# Altium footprint library IC_SMD_QUAD.PCBLIB: 135 footprints (part 1 of 9)
Each footprint in its own frame and in the unit in brackets; x right, y up, seen from the top. Pads: shape width x height; smd on the part's side, far side on the other; paste and mask are expansions set on the pad; w line width, h text height; cw(c..) or ccw(c..) is an arc to the next point about the centre after c.
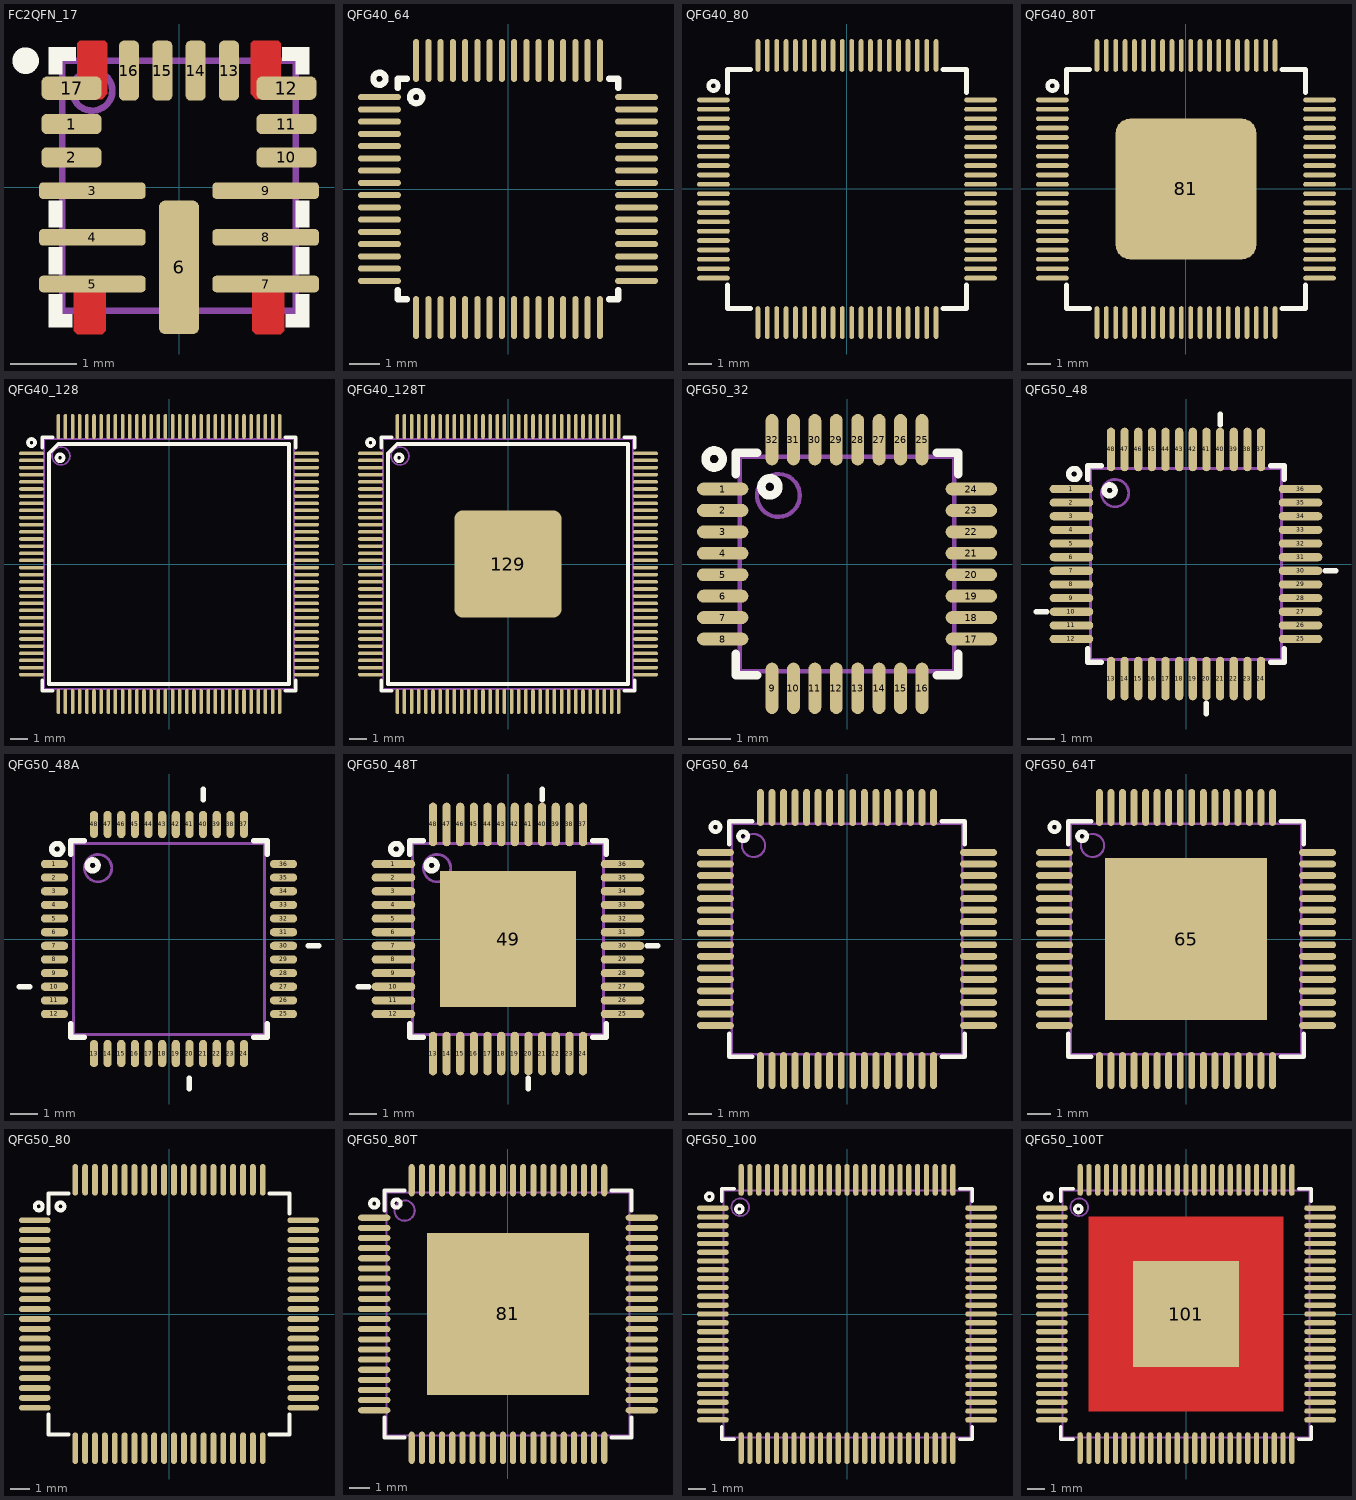
[diagram p0: the footprints below, top view; thin cyan lines are the x and y axes]

## FC2QFN_17 [mm] "FC2QFN-17 3.5x3.75x0.8mm"
height 0.8
pads (17):
  rrect50% 0.9x0.3 smd paste-0.025 mask+0: 1(-1.612,0.95) 2(-1.612,0.45) 10(1.612,0.45) 11(1.612,0.95)
  rrect50% 1.6x0.25 smd paste-0.025 mask+0: 3(-1.3,-0.05) 4(-1.3,-0.75) 5(-1.3,-1.45) 7(1.3,-1.45) 8(1.3,-0.75) 9(1.3,-0.05)
  rrect30% 0.6x2 smd paste-0.3 mask+0: 6(0,-1.2)
  rrect50% 0.9x0.35 smd paste-0.025 mask+0: 12(1.612,1.488) 17(-1.612,1.488)
  rrect50% 0.3x0.9 smd paste-0.025 mask+0: 13(0.75,1.75) 14(0.25,1.75) 15(-0.25,1.75) 16(-0.75,1.75)
TopLayer:
  region: 1.1,-2.15 1.15,-2.2 1.525,-2.2 1.575,-2.15 1.575,-1.45 1.1,-1.45
  region: 1.15,1.325 1.525,1.325 1.525,1.65 1.525,2.163 1.488,2.2 1.112,2.2 1.075,2.163 1.075,1.4
  region: -1.1,-2.15 -1.15,-2.2 -1.525,-2.2 -1.575,-2.15 -1.575,-1.45 -1.1,-1.45
  region: -1.15,1.325 -1.525,1.325 -1.525,1.65 -1.525,2.163 -1.488,2.2 -1.112,2.2 -1.075,2.163 -1.075,1.4
TopOverlay:
  circle w0.2: c-2.3,1.9 r0.1
  region: -1.75,1.7 -1.95,1.7 -1.95,2.1 -1.55,2.1 -1.55,1.9 -1.75,1.9
  region: 1.75,1.7 1.95,1.7 1.95,2.1 1.55,2.1 1.55,1.9 1.75,1.9
  region: -1.75,-1.6 -1.95,-1.6 -1.95,-2.1 -1.6,-2.1 -1.6,-1.9 -1.75,-1.9
  region: 1.75,-1.6 1.95,-1.6 1.95,-2.1 1.6,-2.1 1.6,-1.9 1.75,-1.9
  region: -1.95,-0.6 -1.75,-0.6 -1.75,-0.2 -1.95,-0.2
  region: -1.95,-1.3 -1.75,-1.3 -1.75,-0.9 -1.95,-0.9
  region: 1.95,-0.6 1.75,-0.6 1.75,-0.2 1.95,-0.2
  region: 1.95,-1.3 1.75,-1.3 1.75,-0.9 1.95,-0.9
TopPaste:
  region: -0.2,-1.1 0.2,-1.1 0.2,-0.3 -0.2,-0.3
  region: -0.2,-2.1 0.2,-2.1 0.2,-1.3 -0.2,-1.3
Mechanical13:
  circle w0.1: c-1.3,1.45 r0.3
  lines w0.1: -1.75,-1.85 1.75,-1.85 1.75,1.9 -1.75,1.9 -1.75,-1.85
3D body "MAXIM_90-100104.step": height 0.8, standoff 0, extent -1.75,-1.875 1.75,1.875

## QFG40_64 [mm] "LQFP64_7x7mm, 7X7mm, 0.4mm"
pads (64):
  oval 1.4x0.2 smd mask-2539.97: 1(-4.2,3) 2(-4.2,2.6) 3(-4.2,2.2) 4(-4.2,1.8) 5(-4.2,1.4) 6(-4.2,1) 7(-4.2,0.6) 8(-4.2,0.2) 9(-4.2,-0.2) 10(-4.2,-0.6) 11(-4.2,-1) 12(-4.2,-1.4) 13(-4.2,-1.8) 14(-4.2,-2.2) 15(-4.2,-2.6) 16(-4.2,-3) 33(4.2,-3) 34(4.2,-2.6) 35(4.2,-2.2) 36(4.2,-1.8) 37(4.2,-1.4) 38(4.2,-1) 39(4.2,-0.6) 40(4.2,-0.2) 41(4.2,0.2) 42(4.2,0.6) 43(4.2,1) 44(4.2,1.4) 45(4.2,1.8) 46(4.2,2.2) 47(4.2,2.6) 48(4.2,3)
  oval 0.2x1.4 smd mask-2539.97: 17(-3,-4.2) 18(-2.6,-4.2) 19(-2.2,-4.2) 20(-1.8,-4.2) 21(-1.4,-4.2) 22(-1,-4.2) 23(-0.6,-4.2) 24(-0.2,-4.2) 25(0.2,-4.2) 26(0.6,-4.2) 27(1,-4.2) 28(1.4,-4.2) 29(1.8,-4.2) 30(2.2,-4.2) 31(2.6,-4.2) 32(3,-4.2) 49(3,4.2) 50(2.6,4.2) 51(2.2,4.2) 52(1.8,4.2) 53(1.4,4.2) 54(1,4.2) 55(0.6,4.2) 56(0.2,4.2) 57(-0.2,4.2) 58(-0.6,4.2) 59(-1,4.2) 60(-1.4,4.2) 61(-1.8,4.2) 62(-2.2,4.2) 63(-2.6,4.2) 64(-3,4.2)
TopOverlay:
  circle w0.2: c-3,3 r0.2
  circle w0.2: c-4.2,3.6 r0.2
  lines w0.2: -3.6,-3.3 -3.6,-3.6 -3.3,-3.6 ; -3.6,3.3 -3.6,3.6 -3.3,3.6 ; 3.3,-3.6 3.6,-3.6 3.6,-3.3 ; 3.3,3.6 3.6,3.6 3.6,3.3
TopSolder:
  lines w0.25: -4.875,-3 -3.525,-3 ; -4.875,-2.6 -3.525,-2.6 ; -4.875,-2.2 -3.525,-2.2 ; -4.875,-1.8 -3.525,-1.8 ; -4.875,-1.4 -3.525,-1.4 ; -4.875,-1 -3.525,-1 ; -4.875,-0.6 -3.525,-0.6 ; -4.875,-0.2 -3.525,-0.2 ; -4.875,0.2 -3.525,0.2 ; -4.875,0.6 -3.525,0.6 ; -4.875,1 -3.525,1 ; -4.875,1.4 -3.525,1.4 ; -4.875,1.8 -3.525,1.8 ; -4.875,2.2 -3.525,2.2 ; -4.875,2.6 -3.525,2.6 ; -4.875,3 -3.525,3 ; -3,-4.875 -3,-3.525 ; -3,3.525 -3,4.875 ; -2.6,-4.875 -2.6,-3.525 ; -2.6,3.525 -2.6,4.875 ; -2.2,-4.875 -2.2,-3.525 ; -2.2,3.525 -2.2,4.875 ; -1.8,-4.875 -1.8,-3.525 ; -1.8,3.525 -1.8,4.875 ; -1.4,-4.875 -1.4,-3.525 ; -1.4,3.525 -1.4,4.875 ; -1,-4.875 -1,-3.525 ; -1,3.525 -1,4.875 ; -0.6,-4.875 -0.6,-3.525 ; -0.6,3.525 -0.6,4.875 ; -0.2,-4.875 -0.2,-3.525 ; -0.2,3.525 -0.2,4.875 ; 0.2,-4.875 0.2,-3.525 ; 0.2,3.525 0.2,4.875 ; 0.6,-4.875 0.6,-3.525 ; 0.6,3.525 0.6,4.875 ; 1,-4.875 1,-3.525 ; 1,3.525 1,4.875 ; 1.4,-4.875 1.4,-3.525 ; 1.4,3.525 1.4,4.875 ; 1.8,-4.875 1.8,-3.525 ; 1.8,3.525 1.8,4.875 ; 2.2,-4.875 2.2,-3.525 ; 2.2,3.525 2.2,4.875 ; 2.6,-4.875 2.6,-3.525 ; 2.6,3.525 2.6,4.875 ; 3,-4.875 3,-3.525 ; 3,3.525 3,4.875 ; 3.525,-3 4.875,-3 ; 3.525,-2.6 4.875,-2.6 ; 3.525,-2.2 4.875,-2.2 ; 3.525,-1.8 4.875,-1.8 ; 3.525,-1.4 4.875,-1.4 ; 3.525,-1 4.875,-1 ; 3.525,-0.6 4.875,-0.6 ; 3.525,-0.2 4.875,-0.2 ; 3.525,0.2 4.875,0.2 ; 3.525,0.6 4.875,0.6 ; 3.525,1 4.875,1 ; 3.525,1.4 4.875,1.4 ; 3.525,1.8 4.875,1.8 ; 3.525,2.2 4.875,2.2 ; 3.525,2.6 4.875,2.6 ; 3.525,3 4.875,3
3D body "User Library-LQFP64_7x7mm.step": height 1.58, standoff 0, extent -4.5,-4.5 4.5,4.5

## QFG40_80 [mm] "LQFP-80, 0.40mm Pitch, 10x10mm, FCE80"
height 1.6
pads (80):
  oval 1.4x0.2 smd mask-2539.97: 1(-5.7,3.8) 2(-5.7,3.4) 3(-5.7,3) 4(-5.7,2.6) 5(-5.7,2.2) 6(-5.7,1.8) 7(-5.7,1.4) 8(-5.7,1) 9(-5.7,0.6) 10(-5.7,0.2) 11(-5.7,-0.2) 12(-5.7,-0.6) 13(-5.7,-1) 14(-5.7,-1.4) 15(-5.7,-1.8) 16(-5.7,-2.2) 17(-5.7,-2.6) 18(-5.7,-3) 19(-5.7,-3.4) 20(-5.7,-3.8) 41(5.7,-3.8) 42(5.7,-3.4) 43(5.7,-3) 44(5.7,-2.6) 45(5.7,-2.2) 46(5.7,-1.8) 47(5.7,-1.4) 48(5.7,-1) 49(5.7,-0.6) 50(5.7,-0.2) 51(5.7,0.2) 52(5.7,0.6) 53(5.7,1) 54(5.7,1.4) 55(5.7,1.8) 56(5.7,2.2) 57(5.7,2.6) 58(5.7,3) 59(5.7,3.4) 60(5.7,3.8)
  oval 0.2x1.4 smd mask-2539.97: 21(-3.8,-5.7) 22(-3.4,-5.7) 23(-3,-5.7) 24(-2.6,-5.7) 25(-2.2,-5.7) 26(-1.8,-5.7) 27(-1.4,-5.7) 28(-1,-5.7) 29(-0.6,-5.7) 30(-0.2,-5.7) 31(0.2,-5.7) 32(0.6,-5.7) 33(1,-5.7) 34(1.4,-5.7) 35(1.8,-5.7) 36(2.2,-5.7) 37(2.6,-5.7) 38(3,-5.7) 39(3.4,-5.7) 40(3.8,-5.7) 61(3.8,5.7) 62(3.4,5.7) 63(3,5.7) 64(2.6,5.7) 65(2.2,5.7) 66(1.8,5.7) 67(1.4,5.7) 68(1,5.7) 69(0.6,5.7) 70(0.2,5.7) 71(-0.2,5.7) 72(-0.6,5.7) 73(-1,5.7) 74(-1.4,5.7) 75(-1.8,5.7) 76(-2.2,5.7) 77(-2.6,5.7) 78(-3,5.7) 79(-3.4,5.7) 80(-3.8,5.7)
TopOverlay:
  circle w0.2: c-5.7,4.4 r0.2
  lines w0.2: -5.1,-4.1 -5.1,-5.1 -4.1,-5.1 ; -5.1,4.1 -5.1,5.1 -4.1,5.1 ; 4.1,-5.1 5.1,-5.1 5.1,-4.1 ; 4.1,5.1 5.1,5.1 5.1,4.1
TopSolder:
  lines w0.25: -6.325,-3.8 -5.075,-3.8 ; -6.325,-3.4 -5.075,-3.4 ; -6.325,-3 -5.075,-3 ; -6.325,-2.6 -5.075,-2.6 ; -6.325,-2.2 -5.075,-2.2 ; -6.325,-1.8 -5.075,-1.8 ; -6.325,-1.4 -5.075,-1.4 ; -6.325,-1 -5.075,-1 ; -6.325,-0.6 -5.075,-0.6 ; -6.325,-0.2 -5.075,-0.2 ; -6.325,0.2 -5.075,0.2 ; -6.325,0.6 -5.075,0.6 ; -6.325,1 -5.075,1 ; -6.325,1.4 -5.075,1.4 ; -6.325,1.8 -5.075,1.8 ; -6.325,2.2 -5.075,2.2 ; -6.325,2.6 -5.075,2.6 ; -6.325,3 -5.075,3 ; -6.325,3.4 -5.075,3.4 ; -6.325,3.8 -5.075,3.8 ; -3.8,-6.325 -3.8,-5.075 ; -3.8,5.075 -3.8,6.325 ; -3.4,-6.325 -3.4,-5.075 ; -3.4,5.075 -3.4,6.325 ; -3,-6.325 -3,-5.075 ; -3,5.075 -3,6.325 ; -2.6,-6.325 -2.6,-5.075 ; -2.6,5.075 -2.6,6.325 ; -2.2,-6.325 -2.2,-5.075 ; -2.2,5.075 -2.2,6.325 ; -1.8,-6.325 -1.8,-5.075 ; -1.8,5.075 -1.8,6.325 ; -1.4,-6.325 -1.4,-5.075 ; -1.4,5.075 -1.4,6.325 ; -1,-6.325 -1,-5.075 ; -1,5.075 -1,6.325 ; -0.6,-6.325 -0.6,-5.075 ; -0.6,5.075 -0.6,6.325 ; -0.2,-6.325 -0.2,-5.075 ; -0.2,5.075 -0.2,6.325 ; 0.2,-6.325 0.2,-5.075 ; 0.2,5.075 0.2,6.325 ; 0.6,-6.325 0.6,-5.075 ; 0.6,5.075 0.6,6.325 ; 1,-6.325 1,-5.075 ; 1,5.075 1,6.325 ; 1.4,-6.325 1.4,-5.075 ; 1.4,5.075 1.4,6.325 ; 1.8,-6.325 1.8,-5.075 ; 1.8,5.075 1.8,6.325 ; 2.2,-6.325 2.2,-5.075 ; 2.2,5.075 2.2,6.325 ; 2.6,-6.325 2.6,-5.075 ; 2.6,5.075 2.6,6.325 ; 3,-6.325 3,-5.075 ; 3,5.075 3,6.325 ; 3.4,-6.325 3.4,-5.075 ; 3.4,5.075 3.4,6.325 ; 3.8,-6.325 3.8,-5.075 ; 3.8,5.075 3.8,6.325 ; 5.075,-3.8 6.325,-3.8 ; 5.075,-3.4 6.325,-3.4 ; 5.075,-3 6.325,-3 ; 5.075,-2.6 6.325,-2.6 ; 5.075,-2.2 6.325,-2.2 ; 5.075,-1.8 6.325,-1.8 ; 5.075,-1.4 6.325,-1.4 ; 5.075,-1 6.325,-1 ; 5.075,-0.6 6.325,-0.6 ; 5.075,-0.2 6.325,-0.2 ; 5.075,0.2 6.325,0.2 ; 5.075,0.6 6.325,0.6 ; 5.075,1 6.325,1 ; 5.075,1.4 6.325,1.4 ; 5.075,1.8 6.325,1.8 ; 5.075,2.2 6.325,2.2 ; 5.075,2.6 6.325,2.6 ; 5.075,3 6.325,3 ; 5.075,3.4 6.325,3.4 ; 5.075,3.8 6.325,3.8
3D body "User Library-LQFP-80-2-0.4.step": height 1.75, standoff 0, extent -6.005,-6.002 6,6.002

## QFG40_80T [mm] "LQFP-80, 0.40mm Pitch, 10x10mm, FCE80"
height 1.6
pads (81):
  oval 1.4x0.2 smd mask-2539.97: 1(-5.7,3.8) 2(-5.7,3.4) 3(-5.7,3) 4(-5.7,2.6) 5(-5.7,2.2) 6(-5.7,1.8) 7(-5.7,1.4) 8(-5.7,1) 9(-5.7,0.6) 10(-5.7,0.2) 11(-5.7,-0.2) 12(-5.7,-0.6) 13(-5.7,-1) 14(-5.7,-1.4) 15(-5.7,-1.8) 16(-5.7,-2.2) 17(-5.7,-2.6) 18(-5.7,-3) 19(-5.7,-3.4) 20(-5.7,-3.8) 41(5.7,-3.8) 42(5.7,-3.4) 43(5.7,-3) 44(5.7,-2.6) 45(5.7,-2.2) 46(5.7,-1.8) 47(5.7,-1.4) 48(5.7,-1) 49(5.7,-0.6) 50(5.7,-0.2) 51(5.7,0.2) 52(5.7,0.6) 53(5.7,1) 54(5.7,1.4) 55(5.7,1.8) 56(5.7,2.2) 57(5.7,2.6) 58(5.7,3) 59(5.7,3.4) 60(5.7,3.8)
  oval 0.2x1.4 smd mask-2539.97: 21(-3.8,-5.7) 22(-3.4,-5.7) 23(-3,-5.7) 24(-2.6,-5.7) 25(-2.2,-5.7) 26(-1.8,-5.7) 27(-1.4,-5.7) 28(-1,-5.7) 29(-0.6,-5.7) 30(-0.2,-5.7) 31(0.2,-5.7) 32(0.6,-5.7) 33(1,-5.7) 34(1.4,-5.7) 35(1.8,-5.7) 36(2.2,-5.7) 37(2.6,-5.7) 38(3,-5.7) 39(3.4,-5.7) 40(3.8,-5.7) 61(3.8,5.7) 62(3.4,5.7) 63(3,5.7) 64(2.6,5.7) 65(2.2,5.7) 66(1.8,5.7) 67(1.4,5.7) 68(1,5.7) 69(0.6,5.7) 70(0.2,5.7) 71(-0.2,5.7) 72(-0.6,5.7) 73(-1,5.7) 74(-1.4,5.7) 75(-1.8,5.7) 76(-2.2,5.7) 77(-2.6,5.7) 78(-3,5.7) 79(-3.4,5.7) 80(-3.8,5.7)
  rrect20% 6x6 smd mask+0.1: 81(0,0)
TopOverlay:
  circle w0.2: c-5.7,4.4 r0.2
  lines w0.2: -5.1,-4.1 -5.1,-5.1 -4.1,-5.1 ; -5.1,4.1 -5.1,5.1 -4.1,5.1 ; 4.1,-5.1 5.1,-5.1 5.1,-4.1 ; 4.1,5.1 5.1,5.1 5.1,4.1
TopSolder:
  lines w0.25: -6.375,-3.8 -5.025,-3.8 ; -6.375,-3.4 -5.025,-3.4 ; -6.375,-3 -5.025,-3 ; -6.375,-2.6 -5.025,-2.6 ; -6.375,-2.2 -5.025,-2.2 ; -6.375,-1.8 -5.025,-1.8 ; -6.375,-1.4 -5.025,-1.4 ; -6.375,-1 -5.025,-1 ; -6.375,-0.6 -5.025,-0.6 ; -6.375,-0.2 -5.025,-0.2 ; -6.375,0.2 -5.025,0.2 ; -6.375,0.6 -5.025,0.6 ; -6.375,1 -5.025,1 ; -6.375,1.4 -5.025,1.4 ; -6.375,1.8 -5.025,1.8 ; -6.375,2.2 -5.025,2.2 ; -6.375,2.6 -5.025,2.6 ; -6.375,3 -5.025,3 ; -6.375,3.4 -5.025,3.4 ; -6.375,3.8 -5.025,3.8 ; -3.8,-6.375 -3.8,-5.025 ; -3.8,5.025 -3.8,6.375 ; -3.4,-6.375 -3.4,-5.025 ; -3.4,5.025 -3.4,6.375 ; -3,-6.375 -3,-5.025 ; -3,5.025 -3,6.375 ; -2.6,-6.375 -2.6,-5.025 ; -2.6,5.025 -2.6,6.375 ; -2.2,-6.375 -2.2,-5.025 ; -2.2,5.025 -2.2,6.375 ; -1.8,-6.375 -1.8,-5.025 ; -1.8,5.025 -1.8,6.375 ; -1.4,-6.375 -1.4,-5.025 ; -1.4,5.025 -1.4,6.375 ; -1,-6.375 -1,-5.025 ; -1,5.025 -1,6.375 ; -0.6,-6.375 -0.6,-5.025 ; -0.6,5.025 -0.6,6.375 ; -0.2,-6.375 -0.2,-5.025 ; -0.2,5.025 -0.2,6.375 ; 0.2,-6.375 0.2,-5.025 ; 0.2,5.025 0.2,6.375 ; 0.6,-6.375 0.6,-5.025 ; 0.6,5.025 0.6,6.375 ; 1,-6.375 1,-5.025 ; 1,5.025 1,6.375 ; 1.4,-6.375 1.4,-5.025 ; 1.4,5.025 1.4,6.375 ; 1.8,-6.375 1.8,-5.025 ; 1.8,5.025 1.8,6.375 ; 2.2,-6.375 2.2,-5.025 ; 2.2,5.025 2.2,6.375 ; 2.6,-6.375 2.6,-5.025 ; 2.6,5.025 2.6,6.375 ; 3,-6.375 3,-5.025 ; 3,5.025 3,6.375 ; 3.4,-6.375 3.4,-5.025 ; 3.4,5.025 3.4,6.375 ; 3.8,-6.375 3.8,-5.025 ; 3.8,5.025 3.8,6.375 ; 5.025,-3.8 6.375,-3.8 ; 5.025,-3.4 6.375,-3.4 ; 5.025,-3 6.375,-3 ; 5.025,-2.6 6.375,-2.6 ; 5.025,-2.2 6.375,-2.2 ; 5.025,-1.8 6.375,-1.8 ; 5.025,-1.4 6.375,-1.4 ; 5.025,-1 6.375,-1 ; 5.025,-0.6 6.375,-0.6 ; 5.025,-0.2 6.375,-0.2 ; 5.025,0.2 6.375,0.2 ; 5.025,0.6 6.375,0.6 ; 5.025,1 6.375,1 ; 5.025,1.4 6.375,1.4 ; 5.025,1.8 6.375,1.8 ; 5.025,2.2 6.375,2.2 ; 5.025,2.6 6.375,2.6 ; 5.025,3 6.375,3 ; 5.025,3.4 6.375,3.4 ; 5.025,3.8 6.375,3.8
3D body "User Library-LQFP-80-2-0.4.step": height 1.75, standoff 0, extent -6.005,-6.002 6,6.002

## QFG40_128 [mm] "LQFP128, PQFP-128, MS-026(JEDEC), 14X14mm, 0.4mm"
height 1.6
pads (128):
  oval 1.4x0.2 smd mask-2539.97: 1(-7.7,6.2) 2(-7.7,5.8) 3(-7.7,5.4) 4(-7.7,5) 5(-7.7,4.6) 6(-7.7,4.2) 7(-7.7,3.8) 8(-7.7,3.4) 9(-7.7,3) 10(-7.7,2.6) 11(-7.7,2.2) 12(-7.7,1.8) 13(-7.7,1.4) 14(-7.7,1) 15(-7.7,0.6) 16(-7.7,0.2) 17(-7.7,-0.2) 18(-7.7,-0.6) 19(-7.7,-1) 20(-7.7,-1.4) 21(-7.7,-1.8) 22(-7.7,-2.2) 23(-7.7,-2.6) 24(-7.7,-3) 25(-7.7,-3.4) 26(-7.7,-3.8) 27(-7.7,-4.2) 28(-7.7,-4.6) 29(-7.7,-5) 30(-7.7,-5.4) 31(-7.7,-5.8) 32(-7.7,-6.2) 65(7.7,-6.2) 66(7.7,-5.8) 67(7.7,-5.4) 68(7.7,-5) 69(7.7,-4.6) 70(7.7,-4.2) 71(7.7,-3.8) 72(7.7,-3.4) 73(7.7,-3) 74(7.7,-2.6) 75(7.7,-2.2) 76(7.7,-1.8) 77(7.7,-1.4) 78(7.7,-1) 79(7.7,-0.6) 80(7.7,-0.2) 81(7.7,0.2) 82(7.7,0.6) 83(7.7,1) 84(7.7,1.4) 85(7.7,1.8) 86(7.7,2.2) 87(7.7,2.6) 88(7.7,3) 89(7.7,3.4) 90(7.7,3.8) 91(7.7,4.2) 92(7.7,4.6) 93(7.7,5) 94(7.7,5.4) 95(7.7,5.8) 96(7.7,6.2)
  oval 0.2x1.4 smd mask-2539.97: 33(-6.2,-7.7) 34(-5.8,-7.7) 35(-5.4,-7.7) 36(-5,-7.7) 37(-4.6,-7.7) 38(-4.2,-7.7) 39(-3.8,-7.7) 40(-3.4,-7.7) 41(-3,-7.7) 42(-2.6,-7.7) 43(-2.2,-7.7) 44(-1.8,-7.7) 45(-1.4,-7.7) 46(-1,-7.7) 47(-0.6,-7.7) 48(-0.2,-7.7) 49(0.2,-7.7) 50(0.6,-7.7) 51(1,-7.7) 52(1.4,-7.7) 53(1.8,-7.7) 54(2.2,-7.7) 55(2.6,-7.7) 56(3,-7.7) 57(3.4,-7.7) 58(3.8,-7.7) 59(4.2,-7.7) 60(4.6,-7.7) 61(5,-7.7) 62(5.4,-7.7) 63(5.8,-7.7) 64(6.2,-7.7) 97(6.2,7.7) 98(5.8,7.7) 99(5.4,7.7) 100(5,7.7) 101(4.6,7.7) 102(4.2,7.7) 103(3.8,7.7) 104(3.4,7.7) 105(3,7.7) 106(2.6,7.7) 107(2.2,7.7) 108(1.8,7.7) 109(1.4,7.7) 110(1,7.7) 111(0.6,7.7) 112(0.2,7.7) 113(-0.2,7.7) 114(-0.6,7.7) 115(-1,7.7) 116(-1.4,7.7) 117(-1.8,7.7) 118(-2.2,7.7) 119(-2.6,7.7) 120(-3,7.7) 121(-3.4,7.7) 122(-3.8,7.7) 123(-4.2,7.7) 124(-4.6,7.7) 125(-5,7.7) 126(-5.4,7.7) 127(-5.8,7.7) 128(-6.2,7.7)
TopOverlay:
  circle w0.2: c-6.1,5.949 r0.2
  circle w0.2: c-7.7,6.8 r0.2
  lines w0.2: -7.1,-6.5 -7.1,-7.1 -6.5,-7.1 ; -7.1,6.5 -7.1,7.1 -6.5,7.1 ; 6.5,-7.1 7.1,-7.1 7.1,-6.5 ; 6.5,7.1 7.1,7.1 7.1,6.5 ; -6.719,-6.719 -6.719,4.93 -6.719,6.211 -6.211,6.719 -4.93,6.719 6.719,6.719 6.719,-6.719 -6.719,-6.719
TopSolder:
  lines w0.25: -8.375,-6.2 -7.025,-6.2 ; -8.375,-5.8 -7.025,-5.8 ; -8.375,-5.4 -7.025,-5.4 ; -8.375,-5 -7.025,-5 ; -8.375,-4.6 -7.025,-4.6 ; -8.375,-4.2 -7.025,-4.2 ; -8.375,-3.8 -7.025,-3.8 ; -8.375,-3.4 -7.025,-3.4 ; -8.375,-3 -7.025,-3 ; -8.375,-2.6 -7.025,-2.6 ; -8.375,-2.2 -7.025,-2.2 ; -8.375,-1.8 -7.025,-1.8 ; -8.375,-1.4 -7.025,-1.4 ; -8.375,-1 -7.025,-1 ; -8.375,-0.6 -7.025,-0.6 ; -8.375,-0.2 -7.025,-0.2 ; -8.375,0.2 -7.025,0.2 ; -8.375,0.6 -7.025,0.6 ; -8.375,1 -7.025,1 ; -8.375,1.4 -7.025,1.4 ; -8.375,1.8 -7.025,1.8 ; -8.375,2.2 -7.025,2.2 ; -8.375,2.6 -7.025,2.6 ; -8.375,3 -7.025,3 ; -8.375,3.4 -7.025,3.4 ; -8.375,3.8 -7.025,3.8 ; -8.375,4.2 -7.025,4.2 ; -8.375,4.6 -7.025,4.6 ; -8.375,5 -7.025,5 ; -8.375,5.4 -7.025,5.4 ; -8.375,5.8 -7.025,5.8 ; -8.375,6.2 -7.025,6.2 ; -6.2,-8.375 -6.2,-7.025 ; -6.2,7.025 -6.2,8.375 ; -5.8,-8.375 -5.8,-7.025 ; -5.8,7.025 -5.8,8.375 ; -5.4,-8.375 -5.4,-7.025 ; -5.4,7.025 -5.4,8.375 ; -5,-8.375 -5,-7.025 ; -5,7.025 -5,8.375 ; -4.6,-8.375 -4.6,-7.025 ; -4.6,7.025 -4.6,8.375 ; -4.2,-8.375 -4.2,-7.025 ; -4.2,7.025 -4.2,8.375 ; -3.8,-8.375 -3.8,-7.025 ; -3.8,7.025 -3.8,8.375 ; -3.4,-8.375 -3.4,-7.025 ; -3.4,7.025 -3.4,8.375 ; -3,-8.375 -3,-7.025 ; -3,7.025 -3,8.375 ; -2.6,-8.375 -2.6,-7.025 ; -2.6,7.025 -2.6,8.375 ; -2.2,-8.375 -2.2,-7.025 ; -2.2,7.025 -2.2,8.375 ; -1.8,-8.375 -1.8,-7.025 ; -1.8,7.025 -1.8,8.375 ; -1.4,-8.375 -1.4,-7.025 ; -1.4,7.025 -1.4,8.375 ; -1,-8.375 -1,-7.025 ; -1,7.025 -1,8.375 ; -0.6,-8.375 -0.6,-7.025 ; -0.6,7.025 -0.6,8.375 ; -0.2,-8.375 -0.2,-7.025 ; -0.2,7.025 -0.2,8.375 ; 0.2,-8.375 0.2,-7.025 ; 0.2,7.025 0.2,8.375 ; 0.6,-8.375 0.6,-7.025 ; 0.6,7.025 0.6,8.375 ; 1,-8.375 1,-7.025 ; 1,7.025 1,8.375 ; 1.4,-8.375 1.4,-7.025 ; 1.4,7.025 1.4,8.375 ; 1.8,-8.375 1.8,-7.025 ; 1.8,7.025 1.8,8.375 ; 2.2,-8.375 2.2,-7.025 ; 2.2,7.025 2.2,8.375 ; 2.6,-8.375 2.6,-7.025 ; 2.6,7.025 2.6,8.375 ; 3,-8.375 3,-7.025 ; 3,7.025 3,8.375 ; 3.4,-8.375 3.4,-7.025 ; 3.4,7.025 3.4,8.375 ; 3.8,-8.375 3.8,-7.025 ; 3.8,7.025 3.8,8.375 ; 4.2,-8.375 4.2,-7.025 ; 4.2,7.025 4.2,8.375 ; 4.6,-8.375 4.6,-7.025 ; 4.6,7.025 4.6,8.375 ; 5,-8.375 5,-7.025 ; 5,7.025 5,8.375 ; 5.4,-8.375 5.4,-7.025 ; 5.4,7.025 5.4,8.375 ; 5.8,-8.375 5.8,-7.025 ; 5.8,7.025 5.8,8.375 ; 6.2,-8.375 6.2,-7.025 ; 6.2,7.025 6.2,8.375 ; 7.025,-6.2 8.375,-6.2 ; 7.025,-5.8 8.375,-5.8 ; 7.025,-5.4 8.375,-5.4 ; 7.025,-5 8.375,-5 ; 7.025,-4.6 8.375,-4.6 ; 7.025,-4.2 8.375,-4.2 ; 7.025,-3.8 8.375,-3.8 ; 7.025,-3.4 8.375,-3.4 ; 7.025,-3 8.375,-3 ; 7.025,-2.6 8.375,-2.6 ; 7.025,-2.2 8.375,-2.2 ; 7.025,-1.8 8.375,-1.8 ; 7.025,-1.4 8.375,-1.4 ; 7.025,-1 8.375,-1 ; 7.025,-0.6 8.375,-0.6 ; 7.025,-0.2 8.375,-0.2 ; 7.025,0.2 8.375,0.2 ; 7.025,0.6 8.375,0.6 ; 7.025,1 8.375,1 ; 7.025,1.4 8.375,1.4 ; 7.025,1.8 8.375,1.8 ; 7.025,2.2 8.375,2.2 ; 7.025,2.6 8.375,2.6 ; 7.025,3 8.375,3 ; 7.025,3.4 8.375,3.4 ; 7.025,3.8 8.375,3.8 ; 7.025,4.2 8.375,4.2 ; 7.025,4.6 8.375,4.6 ; 7.025,5 8.375,5 ; 7.025,5.4 8.375,5.4 ; 7.025,5.8 8.375,5.8 ; 7.025,6.2 8.375,6.2
Mechanical13:
  circle w0.1: c-6.05,6.05 r0.5
  lines w0.1: -7,-7 7,-7 7,7 -7,7 -7,-7
3D body "LQFP40P-128.STEP": height 1.35, standoff 0, extent -8,-8 8,8

## QFG40_128T [mm] "LQFP128, PQFP-128, MS-026(JEDEC), 14X14mm, 0.4mm"
height 1.6
pads (129):
  oval 1.4x0.2 smd mask-2539.97: 1(-7.7,6.2) 2(-7.7,5.8) 3(-7.7,5.4) 4(-7.7,5) 5(-7.7,4.6) 6(-7.7,4.2) 7(-7.7,3.8) 8(-7.7,3.4) 9(-7.7,3) 10(-7.7,2.6) 11(-7.7,2.2) 12(-7.7,1.8) 13(-7.7,1.4) 14(-7.7,1) 15(-7.7,0.6) 16(-7.7,0.2) 17(-7.7,-0.2) 18(-7.7,-0.6) 19(-7.7,-1) 20(-7.7,-1.4) 21(-7.7,-1.8) 22(-7.7,-2.2) 23(-7.7,-2.6) 24(-7.7,-3) 25(-7.7,-3.4) 26(-7.7,-3.8) 27(-7.7,-4.2) 28(-7.7,-4.6) 29(-7.7,-5) 30(-7.7,-5.4) 31(-7.7,-5.8) 32(-7.7,-6.2) 65(7.7,-6.2) 66(7.7,-5.8) 67(7.7,-5.4) 68(7.7,-5) 69(7.7,-4.6) 70(7.7,-4.2) 71(7.7,-3.8) 72(7.7,-3.4) 73(7.7,-3) 74(7.7,-2.6) 75(7.7,-2.2) 76(7.7,-1.8) 77(7.7,-1.4) 78(7.7,-1) 79(7.7,-0.6) 80(7.7,-0.2) 81(7.7,0.2) 82(7.7,0.6) 83(7.7,1) 84(7.7,1.4) 85(7.7,1.8) 86(7.7,2.2) 87(7.7,2.6) 88(7.7,3) 89(7.7,3.4) 90(7.7,3.8) 91(7.7,4.2) 92(7.7,4.6) 93(7.7,5) 94(7.7,5.4) 95(7.7,5.8) 96(7.7,6.2)
  oval 0.2x1.4 smd mask-2539.97: 33(-6.2,-7.7) 34(-5.8,-7.7) 35(-5.4,-7.7) 36(-5,-7.7) 37(-4.6,-7.7) 38(-4.2,-7.7) 39(-3.8,-7.7) 40(-3.4,-7.7) 41(-3,-7.7) 42(-2.6,-7.7) 43(-2.2,-7.7) 44(-1.8,-7.7) 45(-1.4,-7.7) 46(-1,-7.7) 47(-0.6,-7.7) 48(-0.2,-7.7) 49(0.2,-7.7) 50(0.6,-7.7) 51(1,-7.7) 52(1.4,-7.7) 53(1.8,-7.7) 54(2.2,-7.7) 55(2.6,-7.7) 56(3,-7.7) 57(3.4,-7.7) 58(3.8,-7.7) 59(4.2,-7.7) 60(4.6,-7.7) 61(5,-7.7) 62(5.4,-7.7) 63(5.8,-7.7) 64(6.2,-7.7) 97(6.2,7.7) 98(5.8,7.7) 99(5.4,7.7) 100(5,7.7) 101(4.6,7.7) 102(4.2,7.7) 103(3.8,7.7) 104(3.4,7.7) 105(3,7.7) 106(2.6,7.7) 107(2.2,7.7) 108(1.8,7.7) 109(1.4,7.7) 110(1,7.7) 111(0.6,7.7) 112(0.2,7.7) 113(-0.2,7.7) 114(-0.6,7.7) 115(-1,7.7) 116(-1.4,7.7) 117(-1.8,7.7) 118(-2.2,7.7) 119(-2.6,7.7) 120(-3,7.7) 121(-3.4,7.7) 122(-3.8,7.7) 123(-4.2,7.7) 124(-4.6,7.7) 125(-5,7.7) 126(-5.4,7.7) 127(-5.8,7.7) 128(-6.2,7.7)
  rrect15% 6x6 smd paste-5 mask+0.1: 129(0,0)
TopOverlay:
  circle w0.2: c-7.7,6.8 r0.2
  circle w0.2: c-6.1,5.949 r0.2
  lines w0.2: -7.1,-6.5 -7.1,-7.1 -6.5,-7.1 ; -7.1,6.5 -7.1,7.1 -6.5,7.1 ; 6.5,-7.1 7.1,-7.1 7.1,-6.5 ; 6.5,7.1 7.1,7.1 7.1,6.5 ; -6.719,-6.719 6.719,-6.719 6.719,6.719 -4.93,6.719 -6.211,6.719 -6.719,6.211 -6.719,4.93 -6.719,-6.719
TopSolder:
  lines w0.25: -8.375,-6.2 -7.025,-6.2 ; -8.375,-5.8 -7.025,-5.8 ; -8.375,-5.4 -7.025,-5.4 ; -8.375,-5 -7.025,-5 ; -8.375,-4.6 -7.025,-4.6 ; -8.375,-4.2 -7.025,-4.2 ; -8.375,-3.8 -7.025,-3.8 ; -8.375,-3.4 -7.025,-3.4 ; -8.375,-3 -7.025,-3 ; -8.375,-2.6 -7.025,-2.6 ; -8.375,-2.2 -7.025,-2.2 ; -8.375,-1.8 -7.025,-1.8 ; -8.375,-1.4 -7.025,-1.4 ; -8.375,-1 -7.025,-1 ; -8.375,-0.6 -7.025,-0.6 ; -8.375,-0.2 -7.025,-0.2 ; -8.375,0.2 -7.025,0.2 ; -8.375,0.6 -7.025,0.6 ; -8.375,1 -7.025,1 ; -8.375,1.4 -7.025,1.4 ; -8.375,1.8 -7.025,1.8 ; -8.375,2.2 -7.025,2.2 ; -8.375,2.6 -7.025,2.6 ; -8.375,3 -7.025,3 ; -8.375,3.4 -7.025,3.4 ; -8.375,3.8 -7.025,3.8 ; -8.375,4.2 -7.025,4.2 ; -8.375,4.6 -7.025,4.6 ; -8.375,5 -7.025,5 ; -8.375,5.4 -7.025,5.4 ; -8.375,5.8 -7.025,5.8 ; -8.375,6.2 -7.025,6.2 ; -6.2,-8.375 -6.2,-7.025 ; -6.2,7.025 -6.2,8.375 ; -5.8,-8.375 -5.8,-7.025 ; -5.8,7.025 -5.8,8.375 ; -5.4,-8.375 -5.4,-7.025 ; -5.4,7.025 -5.4,8.375 ; -5,-8.375 -5,-7.025 ; -5,7.025 -5,8.375 ; -4.6,-8.375 -4.6,-7.025 ; -4.6,7.025 -4.6,8.375 ; -4.2,-8.375 -4.2,-7.025 ; -4.2,7.025 -4.2,8.375 ; -3.8,-8.375 -3.8,-7.025 ; -3.8,7.025 -3.8,8.375 ; -3.4,-8.375 -3.4,-7.025 ; -3.4,7.025 -3.4,8.375 ; -3,-8.375 -3,-7.025 ; -3,7.025 -3,8.375 ; -2.6,-8.375 -2.6,-7.025 ; -2.6,7.025 -2.6,8.375 ; -2.2,-8.375 -2.2,-7.025 ; -2.2,7.025 -2.2,8.375 ; -1.8,-8.375 -1.8,-7.025 ; -1.8,7.025 -1.8,8.375 ; -1.4,-8.375 -1.4,-7.025 ; -1.4,7.025 -1.4,8.375 ; -1,-8.375 -1,-7.025 ; -1,7.025 -1,8.375 ; -0.6,-8.375 -0.6,-7.025 ; -0.6,7.025 -0.6,8.375 ; -0.2,-8.375 -0.2,-7.025 ; -0.2,7.025 -0.2,8.375 ; 0.2,-8.375 0.2,-7.025 ; 0.2,7.025 0.2,8.375 ; 0.6,-8.375 0.6,-7.025 ; 0.6,7.025 0.6,8.375 ; 1,-8.375 1,-7.025 ; 1,7.025 1,8.375 ; 1.4,-8.375 1.4,-7.025 ; 1.4,7.025 1.4,8.375 ; 1.8,-8.375 1.8,-7.025 ; 1.8,7.025 1.8,8.375 ; 2.2,-8.375 2.2,-7.025 ; 2.2,7.025 2.2,8.375 ; 2.6,-8.375 2.6,-7.025 ; 2.6,7.025 2.6,8.375 ; 3,-8.375 3,-7.025 ; 3,7.025 3,8.375 ; 3.4,-8.375 3.4,-7.025 ; 3.4,7.025 3.4,8.375 ; 3.8,-8.375 3.8,-7.025 ; 3.8,7.025 3.8,8.375 ; 4.2,-8.375 4.2,-7.025 ; 4.2,7.025 4.2,8.375 ; 4.6,-8.375 4.6,-7.025 ; 4.6,7.025 4.6,8.375 ; 5,-8.375 5,-7.025 ; 5,7.025 5,8.375 ; 5.4,-8.375 5.4,-7.025 ; 5.4,7.025 5.4,8.375 ; 5.8,-8.375 5.8,-7.025 ; 5.8,7.025 5.8,8.375 ; 6.2,-8.375 6.2,-7.025 ; 6.2,7.025 6.2,8.375 ; 7.025,-6.2 8.375,-6.2 ; 7.025,-5.8 8.375,-5.8 ; 7.025,-5.4 8.375,-5.4 ; 7.025,-5 8.375,-5 ; 7.025,-4.6 8.375,-4.6 ; 7.025,-4.2 8.375,-4.2 ; 7.025,-3.8 8.375,-3.8 ; 7.025,-3.4 8.375,-3.4 ; 7.025,-3 8.375,-3 ; 7.025,-2.6 8.375,-2.6 ; 7.025,-2.2 8.375,-2.2 ; 7.025,-1.8 8.375,-1.8 ; 7.025,-1.4 8.375,-1.4 ; 7.025,-1 8.375,-1 ; 7.025,-0.6 8.375,-0.6 ; 7.025,-0.2 8.375,-0.2 ; 7.025,0.2 8.375,0.2 ; 7.025,0.6 8.375,0.6 ; 7.025,1 8.375,1 ; 7.025,1.4 8.375,1.4 ; 7.025,1.8 8.375,1.8 ; 7.025,2.2 8.375,2.2 ; 7.025,2.6 8.375,2.6 ; 7.025,3 8.375,3 ; 7.025,3.4 8.375,3.4 ; 7.025,3.8 8.375,3.8 ; 7.025,4.2 8.375,4.2 ; 7.025,4.6 8.375,4.6 ; 7.025,5 8.375,5 ; 7.025,5.4 8.375,5.4 ; 7.025,5.8 8.375,5.8 ; 7.025,6.2 8.375,6.2
Mechanical13:
  circle w0.1: c-6.05,6.05 r0.5
  lines w0.1: -7,-7 -7,7 7,7 7,-7 -7,-7
3D body "LQFP40P-128.STEP": height 1.35, standoff 0, extent -8,-8 8,8

## QFG50_32 [mm] "PBS TSQFP, 32-Leads, Body 5.00x5.00mm, Pitch 0.50mm"
height 1
pads (32):
  oval 1.2x0.3 smd mask+0.05: 1(-2.9,1.75) 2(-2.9,1.25) 3(-2.9,0.75) 4(-2.9,0.25) 5(-2.9,-0.25) 6(-2.9,-0.75) 7(-2.9,-1.25) 8(-2.9,-1.75) 17(2.9,-1.75) 18(2.9,-1.25) 19(2.9,-0.75) 20(2.9,-0.25) 21(2.9,0.25) 22(2.9,0.75) 23(2.9,1.25) 24(2.9,1.75)
  oval 0.3x1.2 smd mask+0.05: 9(-1.75,-2.9) 10(-1.25,-2.9) 11(-0.75,-2.9) 12(-0.25,-2.9) 13(0.25,-2.9) 14(0.75,-2.9) 15(1.25,-2.9) 16(1.75,-2.9) 25(1.75,2.9) 26(1.25,2.9) 27(0.75,2.9) 28(0.25,2.9) 29(-0.25,2.9) 30(-0.75,2.9) 31(-1.25,2.9) 32(-1.75,2.9)
TopOverlay:
  circle w0.2: c-3.1,2.45 r0.2
  circle w0.2: c-1.8,1.8 r0.2
  lines w0.2: -2.6,-2.1 -2.6,-2.6 -2.1,-2.6 ; -2.6,2.1 -2.6,2.6 -2.1,2.6 ; 2.1,-2.6 2.6,-2.6 2.6,-2.1 ; 2.1,2.6 2.6,2.6 2.6,2.1
Mechanical13:
  circle w0.1: c-1.6,1.6 r0.5
  lines w0.1: -2.5,-2.5 -2.5,2.5 2.5,2.5 2.5,-2.5 -2.5,-2.5
3D body "QFG50_32_.step": height 1, standoff 0, extent -3,-3 3,3

## QFG50_48 [mm] "LQFP48, PQFF, PQFG, TSQFP, 48-Leads, Body 7.00x7.00mm, Pitch 0.50mm"
height 1.6
pads (48):
  oval 1.6x0.3 smd mask+0.05: 1(-4.2,2.75) 2(-4.2,2.25) 3(-4.2,1.75) 4(-4.2,1.25) 5(-4.2,0.75) 6(-4.2,0.25) 7(-4.2,-0.25) 8(-4.2,-0.75) 9(-4.2,-1.25) 10(-4.2,-1.75) 11(-4.2,-2.25) 12(-4.2,-2.75) 25(4.2,-2.75) 26(4.2,-2.25) 27(4.2,-1.75) 28(4.2,-1.25) 29(4.2,-0.75) 30(4.2,-0.25) 31(4.2,0.25) 32(4.2,0.75) 33(4.2,1.25) 34(4.2,1.75) 35(4.2,2.25) 36(4.2,2.75)
  oval 0.3x1.6 smd mask+0.05: 13(-2.75,-4.2) 14(-2.25,-4.2) 15(-1.75,-4.2) 16(-1.25,-4.2) 17(-0.75,-4.2) 18(-0.25,-4.2) 19(0.25,-4.2) 20(0.75,-4.2) 21(1.25,-4.2) 22(1.75,-4.2) 23(2.25,-4.2) 24(2.75,-4.2) 37(2.75,4.2) 38(2.25,4.2) 39(1.75,4.2) 40(1.25,4.2) 41(0.75,4.2) 42(0.25,4.2) 43(-0.25,4.2) 44(-0.75,4.2) 45(-1.25,4.2) 46(-1.75,4.2) 47(-2.25,4.2) 48(-2.75,4.2)
TopOverlay:
  circle w0.2: c-2.8,2.7 r0.2
  circle w0.2: c-4.1,3.3 r0.2
  lines w0.2: -5.5,-1.75 -5.1,-1.75 ; -3.6,-3.1 -3.6,-3.6 -3.1,-3.6 ; -3.6,3.1 -3.6,3.6 -3.1,3.6 ; 0.75,-5.5 0.75,-5.1 ; 1.25,5.1 1.25,5.5 ; 3.1,-3.6 3.6,-3.6 3.6,-3.1 ; 3.1,3.6 3.6,3.6 3.6,3.1 ; 5.1,-0.25 5.5,-0.25
Mechanical13:
  circle w0.1: c-2.6,2.6 r0.5
  lines w0.1: -3.5,-3.5 3.5,-3.5 3.5,3.5 -3.5,3.5 -3.5,-3.5
3D body "LQFP48_Grid_0_5.STEP": height 1.6, standoff 0, extent -4.5,-4.5 4.5,4.5

## QFG50_48A [mm] "LQFP48, PQFF, PQFG, TSQFP, 48-Leads, Body 7.00x7.00mm, Pitch 0.50mm"
height 1.6
pads (48):
  oval 1x0.3 smd mask+0.05: 1(-4.2,2.75) 2(-4.2,2.25) 3(-4.2,1.75) 4(-4.2,1.25) 5(-4.2,0.75) 6(-4.2,0.25) 7(-4.2,-0.25) 8(-4.2,-0.75) 9(-4.2,-1.25) 10(-4.2,-1.75) 11(-4.2,-2.25) 12(-4.2,-2.75) 25(4.2,-2.75) 26(4.2,-2.25) 27(4.2,-1.75) 28(4.2,-1.25) 29(4.2,-0.75) 30(4.2,-0.25) 31(4.2,0.25) 32(4.2,0.75) 33(4.2,1.25) 34(4.2,1.75) 35(4.2,2.25) 36(4.2,2.75)
  oval 0.3x1 smd mask+0.05: 13(-2.75,-4.2) 14(-2.25,-4.2) 15(-1.75,-4.2) 16(-1.25,-4.2) 17(-0.75,-4.2) 18(-0.25,-4.2) 19(0.25,-4.2) 20(0.75,-4.2) 21(1.25,-4.2) 22(1.75,-4.2) 23(2.25,-4.2) 24(2.75,-4.2) 37(2.75,4.2) 38(2.25,4.2) 39(1.75,4.2) 40(1.25,4.2) 41(0.75,4.2) 42(0.25,4.2) 43(-0.25,4.2) 44(-0.75,4.2) 45(-1.25,4.2) 46(-1.75,4.2) 47(-2.25,4.2) 48(-2.75,4.2)
TopOverlay:
  circle w0.2: c-2.8,2.7 r0.2
  circle w0.2: c-4.1,3.3 r0.2
  lines w0.2: -5.5,-1.75 -5.1,-1.75 ; -3.6,-3.1 -3.6,-3.6 -3.1,-3.6 ; -3.6,3.1 -3.6,3.6 -3.1,3.6 ; 0.75,-5.5 0.75,-5.1 ; 1.25,5.1 1.25,5.5 ; 3.1,-3.6 3.6,-3.6 3.6,-3.1 ; 3.1,3.6 3.6,3.6 3.6,3.1 ; 5.1,-0.25 5.5,-0.25
Mechanical13:
  circle w0.1: c-2.6,2.6 r0.5
  lines w0.1: -3.5,-3.5 3.5,-3.5 3.5,3.5 -3.5,3.5 -3.5,-3.5
3D body "LQFP48_Grid_0_5.STEP": height 1.6, standoff 0, extent -4.5,-4.5 4.5,4.5

## QFG50_48T [mm] "LQFP48P, SV-48, MS-026-ABC(JEDEC), 7.0X7.0mm, Pitch: 0.5mm"
pads (49):
  oval 1.6x0.3 smd mask+0.05: 1(-4.2,2.75) 2(-4.2,2.25) 3(-4.2,1.75) 4(-4.2,1.25) 5(-4.2,0.75) 6(-4.2,0.25) 7(-4.2,-0.25) 8(-4.2,-0.75) 9(-4.2,-1.25) 10(-4.2,-1.75) 11(-4.2,-2.25) 12(-4.2,-2.75) 25(4.2,-2.75) 26(4.2,-2.25) 27(4.2,-1.75) 28(4.2,-1.25) 29(4.2,-0.75) 30(4.2,-0.25) 31(4.2,0.25) 32(4.2,0.75) 33(4.2,1.25) 34(4.2,1.75) 35(4.2,2.25) 36(4.2,2.75)
  oval 0.3x1.6 smd mask+0.05: 13(-2.75,-4.2) 14(-2.25,-4.2) 15(-1.75,-4.2) 16(-1.25,-4.2) 17(-0.75,-4.2) 18(-0.25,-4.2) 19(0.25,-4.2) 20(0.75,-4.2) 21(1.25,-4.2) 22(1.75,-4.2) 23(2.25,-4.2) 24(2.75,-4.2) 37(2.75,4.2) 38(2.25,4.2) 39(1.75,4.2) 40(1.25,4.2) 41(0.75,4.2) 42(0.25,4.2) 43(-0.25,4.2) 44(-0.75,4.2) 45(-1.25,4.2) 46(-1.75,4.2) 47(-2.25,4.2) 48(-2.75,4.2)
  rect 5x5 smd paste-5 mask+0.1: 49(0,0)
TopOverlay:
  circle w0.2: c-4.1,3.3 r0.2
  circle w0.2: c-2.8,2.7 r0.2
  lines w0.2: -5.5,-1.75 -5.1,-1.75 ; -3.6,-3.1 -3.6,-3.6 -3.1,-3.6 ; -3.6,3.1 -3.6,3.6 -3.1,3.6 ; 0.75,-5.5 0.75,-5.1 ; 1.25,5.1 1.25,5.5 ; 3.1,-3.6 3.6,-3.6 3.6,-3.1 ; 3.1,3.6 3.6,3.6 3.6,3.1 ; 5.1,-0.25 5.5,-0.25
TopPaste:
  rectangle: -1.2,0.2 -0.2,1.2
  rectangle: -2.4,1.4 -1.4,2.4
  region: -0.2,2.4 -1.2,2.4 -1.2,1.4 -0.2,1.4
  rectangle: -2.4,0.2 -1.4,1.2
  region: 2.4,1.2 1.4,1.2 1.4,0.2 2.4,0.2
  rectangle: 0.2,1.4 1.2,2.4
  region: 2.4,2.4 1.4,2.4 1.4,1.4 2.4,1.4
  region: 1.2,1.2 0.2,1.2 0.2,0.2 1.2,0.2
  region: 1.2,-0.2 0.2,-0.2 0.2,-1.2 1.2,-1.2
  region: 2.4,-1.4 1.4,-1.4 1.4,-2.4 2.4,-2.4
  rectangle: 0.2,-2.4 1.2,-1.4
  region: 2.4,-0.2 1.4,-0.2 1.4,-1.2 2.4,-1.2
  rectangle: -2.4,-1.2 -1.4,-0.2
  region: -0.2,-1.4 -1.2,-1.4 -1.2,-2.4 -0.2,-2.4
  rectangle: -2.4,-2.4 -1.4,-1.4
  rectangle: -1.2,-1.2 -0.2,-0.2
TopSolder:
  drawing of 9 lines, arcs and shapes, not listed
Mechanical13:
  circle w0.1: c-2.6,2.6 r0.5
  lines w0.1: -3.5,-3.5 -3.5,3.5 3.5,3.5 3.5,-3.5 -3.5,-3.5
3D body "LQFP48_Grid_0_5.STEP": height 1.6, standoff 0, extent -4.5,-4.5 4.5,4.5

## QFG50_64 [mm] "A64 (CYPRESS), TQFP64, LQFP64, VQ44, VQG44, 10X10mm, Pitch: 0.5mm"
height 1.2
pads (64):
  oval 1.6x0.3 smd mask+0.05: 1(-5.7,3.75) 2(-5.7,3.25) 3(-5.7,2.75) 4(-5.7,2.25) 5(-5.7,1.75) 6(-5.7,1.25) 7(-5.7,0.75) 8(-5.7,0.25) 9(-5.7,-0.25) 10(-5.7,-0.75) 11(-5.7,-1.25) 12(-5.7,-1.75) 13(-5.7,-2.25) 14(-5.7,-2.75) 15(-5.7,-3.25) 16(-5.7,-3.75) 33(5.7,-3.75) 34(5.7,-3.25) 35(5.7,-2.75) 36(5.7,-2.25) 37(5.7,-1.75) 38(5.7,-1.25) 39(5.7,-0.75) 40(5.7,-0.25) 41(5.7,0.25) 42(5.7,0.75) 43(5.7,1.25) 44(5.7,1.75) 45(5.7,2.25) 46(5.7,2.75) 47(5.7,3.25) 48(5.7,3.75)
  oval 0.3x1.6 smd mask+0.05: 17(-3.75,-5.7) 18(-3.25,-5.7) 19(-2.75,-5.7) 20(-2.25,-5.7) 21(-1.75,-5.7) 22(-1.25,-5.7) 23(-0.75,-5.7) 24(-0.25,-5.7) 25(0.25,-5.7) 26(0.75,-5.7) 27(1.25,-5.7) 28(1.75,-5.7) 29(2.25,-5.7) 30(2.75,-5.7) 31(3.25,-5.7) 32(3.75,-5.7) 49(3.75,5.7) 50(3.25,5.7) 51(2.75,5.7) 52(2.25,5.7) 53(1.75,5.7) 54(1.25,5.7) 55(0.75,5.7) 56(0.25,5.7) 57(-0.25,5.7) 58(-0.75,5.7) 59(-1.25,5.7) 60(-1.75,5.7) 61(-2.25,5.7) 62(-2.75,5.7) 63(-3.25,5.7) 64(-3.75,5.7)
TopOverlay:
  circle w0.2: c-4.5,4.449 r0.2
  circle w0.2: c-5.7,4.849 r0.2
  lines w0.2: -5.1,-4.1 -5.1,-5.1 -4.1,-5.1 ; -5.1,4.1 -5.1,5.1 -4.1,5.1 ; 4.1,-5.1 5.1,-5.1 5.1,-4.1 ; 4.1,5.1 5.1,5.1 5.1,4.1
Mechanical13:
  circle w0.1: c-4.05,4.05 r0.5
  lines w0.1: -5,-5 -5,5 5,5 5,-5 -5,-5
3D body "LQFP-64.step": height 1.6, standoff 0, extent -6,-6 6,6

## QFG50_64T [mm] "PowerPad PAP (TI) HTQFP 64PIN 10X10mm, Pitch: 0.5mm"
height 1
pads (65):
  oval 1.6x0.3 smd mask+0.05: 1(-5.7,3.75) 2(-5.7,3.25) 3(-5.7,2.75) 4(-5.7,2.25) 5(-5.7,1.75) 6(-5.7,1.25) 7(-5.7,0.75) 8(-5.7,0.25) 9(-5.7,-0.25) 10(-5.7,-0.75) 11(-5.7,-1.25) 12(-5.7,-1.75) 13(-5.7,-2.25) 14(-5.7,-2.75) 15(-5.7,-3.25) 16(-5.7,-3.75) 33(5.7,-3.75) 34(5.7,-3.25) 35(5.7,-2.75) 36(5.7,-2.25) 37(5.7,-1.75) 38(5.7,-1.25) 39(5.7,-0.75) 40(5.7,-0.25) 41(5.7,0.25) 42(5.7,0.75) 43(5.7,1.25) 44(5.7,1.75) 45(5.7,2.25) 46(5.7,2.75) 47(5.7,3.25) 48(5.7,3.75)
  oval 0.3x1.6 smd mask+0.05: 17(-3.75,-5.7) 18(-3.25,-5.7) 19(-2.75,-5.7) 20(-2.25,-5.7) 21(-1.75,-5.7) 22(-1.25,-5.7) 23(-0.75,-5.7) 24(-0.25,-5.7) 25(0.25,-5.7) 26(0.75,-5.7) 27(1.25,-5.7) 28(1.75,-5.7) 29(2.25,-5.7) 30(2.75,-5.7) 31(3.25,-5.7) 32(3.75,-5.7) 49(3.75,5.7) 50(3.25,5.7) 51(2.75,5.7) 52(2.25,5.7) 53(1.75,5.7) 54(1.25,5.7) 55(0.75,5.7) 56(0.25,5.7) 57(-0.25,5.7) 58(-0.75,5.7) 59(-1.25,5.7) 60(-1.75,5.7) 61(-2.25,5.7) 62(-2.75,5.7) 63(-3.25,5.7) 64(-3.75,5.7)
  rect 7x7 smd paste-7 mask+0.1: 65(0,0)
TopOverlay:
  circle w0.2: c-4.5,4.449 r0.2
  circle w0.2: c-5.7,4.849 r0.2
  lines w0.2: -5.1,-4.1 -5.1,-5.1 -4.1,-5.1 ; -5.1,4.1 -5.1,5.1 -4.1,5.1 ; 4.1,-5.1 5.1,-5.1 5.1,-4.1 ; 4.1,5.1 5.1,5.1 5.1,4.1
TopPaste:
  rectangle: -1.6,-1.6 -0.2,-0.2
  rectangle: -3.4,-3.4 -2,-2
  region: -0.2,-2 -1.6,-2 -1.6,-3.4 -0.2,-3.4
  rectangle: -3.4,-1.6 -2,-0.2
  region: 3.4,-0.2 2,-0.2 2,-1.6 3.4,-1.6
  rectangle: 0.2,-3.4 1.6,-2
  region: 3.4,-2 2,-2 2,-3.4 3.4,-3.4
  region: 1.6,-0.2 0.2,-0.2 0.2,-1.6 1.6,-1.6
  region: 1.6,1.6 0.2,1.6 0.2,0.2 1.6,0.2
  region: 3.4,3.4 2,3.4 2,2 3.4,2
  rectangle: 0.2,2 1.6,3.4
  region: 3.4,1.6 2,1.6 2,0.2 3.4,0.2
  rectangle: -3.4,0.2 -2,1.6
  region: -0.2,3.4 -1.6,3.4 -1.6,2 -0.2,2
  rectangle: -3.4,2 -2,3.4
  rectangle: -1.6,0.2 -0.2,1.6
Mechanical13:
  circle w0.1: c-4.05,4.05 r0.5
  lines w0.1: -5,-5 -5,5 5,5 5,-5 -5,-5
3D body "LQFP-64.step": height 1.6, standoff 0, extent -6,-6 6,6

## QFG50_80 [mm] "lqfp80, TFP-80C (Hitachi), 12.0x12.0mm, Pitch 0.5mm"
pads (80):
  oval 1.6x0.3 smd mask+0.05: 1(-6.8,4.75) 2(-6.8,4.25) 3(-6.8,3.75) 4(-6.8,3.25) 5(-6.8,2.75) 6(-6.8,2.25) 7(-6.8,1.75) 8(-6.8,1.25) 9(-6.8,0.75) 10(-6.8,0.25) 11(-6.8,-0.25) 12(-6.8,-0.75) 13(-6.8,-1.25) 14(-6.8,-1.75) 15(-6.8,-2.25) 16(-6.8,-2.75) 17(-6.8,-3.25) 18(-6.8,-3.75) 19(-6.8,-4.25) 20(-6.8,-4.75) 41(6.8,-4.75) 42(6.8,-4.25) 43(6.8,-3.75) 44(6.8,-3.25) 45(6.8,-2.75) 46(6.8,-2.25) 47(6.8,-1.75) 48(6.8,-1.25) 49(6.8,-0.75) 50(6.8,-0.25) 51(6.8,0.25) 52(6.8,0.75) 53(6.8,1.25) 54(6.8,1.75) 55(6.8,2.25) 56(6.8,2.75) 57(6.8,3.25) 58(6.8,3.75) 59(6.8,4.25) 60(6.8,4.75)
  oval 0.3x1.6 smd mask+0.05: 21(-4.75,-6.8) 22(-4.25,-6.8) 23(-3.75,-6.8) 24(-3.25,-6.8) 25(-2.75,-6.8) 26(-2.25,-6.8) 27(-1.75,-6.8) 28(-1.25,-6.8) 29(-0.75,-6.8) 30(-0.25,-6.8) 31(0.25,-6.8) 32(0.75,-6.8) 33(1.25,-6.8) 34(1.75,-6.8) 35(2.25,-6.8) 36(2.75,-6.8) 37(3.25,-6.8) 38(3.75,-6.8) 39(4.25,-6.8) 40(4.75,-6.8) 61(4.75,6.8) 62(4.25,6.8) 63(3.75,6.8) 64(3.25,6.8) 65(2.75,6.8) 66(2.25,6.8) 67(1.75,6.8) 68(1.25,6.8) 69(0.75,6.8) 70(0.25,6.8) 71(-0.25,6.8) 72(-0.75,6.8) 73(-1.25,6.8) 74(-1.75,6.8) 75(-2.25,6.8) 76(-2.75,6.8) 77(-3.25,6.8) 78(-3.75,6.8) 79(-4.25,6.8) 80(-4.75,6.8)
TopOverlay:
  circle w0.2: c-5.5,5.45 r0.2
  circle w0.2: c-6.6,5.45 r0.2
  lines w0.2: -6.1,-5.1 -6.1,-6.1 -5.1,-6.1 ; -6.1,5.1 -6.1,6.1 -5.1,6.1 ; 5.1,-6.1 6.1,-6.1 6.1,-5.1 ; 5.1,6.1 6.1,6.1 6.1,5.1
3D body "User Library-LQFP80-2.STEP": height 1.62, standoff -0.01, extent -7.072,-7.071 7.072,7.072

## QFG50_80T [mm] "HTQFP-80-Leads, Body 12.0x12.0mm, Pitch 0.5mm, Thermal Pad 8.0x8.0mm"
height 1
pads (81):
  oval 1.6x0.3 smd mask+0.05: 1(-6.6,4.75) 2(-6.6,4.25) 3(-6.6,3.75) 4(-6.6,3.25) 5(-6.6,2.75) 6(-6.6,2.25) 7(-6.6,1.75) 8(-6.6,1.25) 9(-6.6,0.75) 10(-6.6,0.25) 11(-6.6,-0.25) 12(-6.6,-0.75) 13(-6.6,-1.25) 14(-6.6,-1.75) 15(-6.6,-2.25) 16(-6.6,-2.75) 17(-6.6,-3.25) 18(-6.6,-3.75) 19(-6.6,-4.25) 20(-6.6,-4.75) 41(6.6,-4.75) 42(6.6,-4.25) 43(6.6,-3.75) 44(6.6,-3.25) 45(6.6,-2.75) 46(6.6,-2.25) 47(6.6,-1.75) 48(6.6,-1.25) 49(6.6,-0.75) 50(6.6,-0.25) 51(6.6,0.25) 52(6.6,0.75) 53(6.6,1.25) 54(6.6,1.75) 55(6.6,2.25) 56(6.6,2.75) 57(6.6,3.25) 58(6.6,3.75) 59(6.6,4.25) 60(6.6,4.75)
  oval 0.3x1.6 smd mask+0.05: 21(-4.75,-6.6) 22(-4.25,-6.6) 23(-3.75,-6.6) 24(-3.25,-6.6) 25(-2.75,-6.6) 26(-2.25,-6.6) 27(-1.75,-6.6) 28(-1.25,-6.6) 29(-0.75,-6.6) 30(-0.25,-6.6) 31(0.25,-6.6) 32(0.75,-6.6) 33(1.25,-6.6) 34(1.75,-6.6) 35(2.25,-6.6) 36(2.75,-6.6) 37(3.25,-6.6) 38(3.75,-6.6) 39(4.25,-6.6) 40(4.75,-6.6) 61(4.75,6.6) 62(4.25,6.6) 63(3.75,6.6) 64(3.25,6.6) 65(2.75,6.6) 66(2.25,6.6) 67(1.75,6.6) 68(1.25,6.6) 69(0.75,6.6) 70(0.25,6.6) 71(-0.25,6.6) 72(-0.75,6.6) 73(-1.25,6.6) 74(-1.75,6.6) 75(-2.25,6.6) 76(-2.75,6.6) 77(-3.25,6.6) 78(-3.75,6.6) 79(-4.25,6.6) 80(-4.75,6.6)
  rect 8x8 smd paste-8 mask+0.1: 81(0,0)
TopOverlay:
  circle w0.2: c-5.5,5.45 r0.2
  circle w0.2: c-6.6,5.45 r0.2
  lines w0.2: -6.1,-5.1 -6.1,-6.1 -5.1,-6.1 ; -6.1,5.1 -6.1,6.1 -5.1,6.1 ; 5.1,-6.1 6.1,-6.1 6.1,-5.1 ; 5.1,6.1 6.1,6.1 6.1,5.1
TopPaste:
  region: 1.6,-0.2 0.2,-0.2 0.2,-1.6 1.6,-1.6
  region: 3.4,-2 2,-2 2,-3.4 3.4,-3.4
  rectangle: 0.2,-3.4 1.6,-2
  region: 3.4,-0.2 2,-0.2 2,-1.6 3.4,-1.6
  rectangle: -3.4,-1.6 -2,-0.2
  region: -0.2,-2 -1.6,-2 -1.6,-3.4 -0.2,-3.4
  rectangle: -3.4,-3.4 -2,-2
  rectangle: -1.6,-1.6 -0.2,-0.2
  region: 1.6,1.6 0.2,1.6 0.2,0.2 1.6,0.2
  region: 3.4,3.4 2,3.4 2,2 3.4,2
  rectangle: 0.2,2 1.6,3.4
  region: 3.4,1.6 2,1.6 2,0.2 3.4,0.2
  rectangle: -3.4,0.2 -2,1.6
  region: -0.2,3.4 -1.6,3.4 -1.6,2 -0.2,2
  rectangle: -3.4,2 -2,3.4
  rectangle: -1.6,0.2 -0.2,1.6
KeepOutLayer:
  drawing of 25 lines, arcs and shapes, not listed
Mechanical13:
  circle w0.1: c-5.1,5.1 r0.5
  lines w0.1: -6,-6 6,-6 6,6 -6,6 -6,-6
3D body "User Library-LQFP80-2.STEP": height 1.62, standoff -0.01, extent -7.072,-7.071 7.072,7.072

## QFG50_100 [mm] "LQFP100, PQFP100, A100 (Cypress), TQ100/VQ100 (Xilinx), 14.0x14.0mm, Pitch 0.5mm, HT100, HTG100"
height 1.2
pads (100):
  oval 1.8x0.3 smd mask+0.05: 1(-7.6,6) 2(-7.6,5.5) 3(-7.6,5) 4(-7.6,4.5) 5(-7.6,4) 6(-7.6,3.5) 7(-7.6,3) 8(-7.6,2.5) 9(-7.6,2) 10(-7.6,1.5) 11(-7.6,1) 12(-7.6,0.5) 13(-7.6,0) 14(-7.6,-0.5) 15(-7.6,-1) 16(-7.6,-1.5) 17(-7.6,-2) 18(-7.6,-2.5) 19(-7.6,-3) 20(-7.6,-3.5) 21(-7.6,-4) 22(-7.6,-4.5) 23(-7.6,-5) 24(-7.6,-5.5) 25(-7.6,-6) 51(7.6,-6) 52(7.6,-5.5) 53(7.6,-5) 54(7.6,-4.5) 55(7.6,-4) 56(7.6,-3.5) 57(7.6,-3) 58(7.6,-2.5) 59(7.6,-2) 60(7.6,-1.5) 61(7.6,-1) 62(7.6,-0.5) 63(7.6,0) 64(7.6,0.5) 65(7.6,1) 66(7.6,1.5) 67(7.6,2) 68(7.6,2.5) 69(7.6,3) 70(7.6,3.5) 71(7.6,4) 72(7.6,4.5) 73(7.6,5) 74(7.6,5.5) 75(7.6,6)
  oval 0.3x1.8 smd mask+0.05: 26(-6,-7.6) 27(-5.5,-7.6) 28(-5,-7.6) 29(-4.5,-7.6) 30(-4,-7.6) 31(-3.5,-7.6) 32(-3,-7.6) 33(-2.5,-7.6) 34(-2,-7.6) 35(-1.5,-7.6) 36(-1,-7.6) 37(-0.5,-7.6) 38(0,-7.6) 39(0.5,-7.6) 40(1,-7.6) 41(1.5,-7.6) 42(2,-7.6) 43(2.5,-7.6) 44(3,-7.6) 45(3.5,-7.6) 46(4,-7.6) 47(4.5,-7.6) 48(5,-7.6) 49(5.5,-7.6) 50(6,-7.6) 76(6,7.6) 77(5.5,7.6) 78(5,7.6) 79(4.5,7.6) 80(4,7.6) 81(3.5,7.6) 82(3,7.6) 83(2.5,7.6) 84(2,7.6) 85(1.5,7.6) 86(1,7.6) 87(0.5,7.6) 88(0,7.6) 89(-0.5,7.6) 90(-1,7.6) 91(-1.5,7.6) 92(-2,7.6) 93(-2.5,7.6) 94(-3,7.6) 95(-3.5,7.6) 96(-4,7.6) 97(-4.5,7.6) 98(-5,7.6) 99(-5.5,7.6) 100(-6,7.6)
TopOverlay:
  circle w0.2: c-7.8,6.649 r0.2
  circle w0.2: c-6.1,5.949 r0.2
  lines w0.2: -7.1,-6.4 -7.1,-7.1 -6.4,-7.1 ; -7.1,6.4 -7.1,7.1 -6.4,7.1 ; 6.4,-7.1 7.1,-7.1 7.1,-6.4 ; 6.4,7.1 7.1,7.1 7.1,6.4
Mechanical13:
  circle w0.1: c-6.05,6.05 r0.5
  lines w0.1: -7,-7 7,-7 7,7 -7,7 -7,-7
3D body "User Library-IPC QFP-ful100l.step": height 1.15, standoff 0, extent -8.014,-8.014 8.014,8.014

## QFG50_100T [mm] "LQFP100P, HTQFP-100, PZP, 14.0x14.0mm, Pitch 0.5mm"
height 1.2
pads (101):
  oval 1.8x0.3 smd mask+0.05: 1(-7.6,6) 2(-7.6,5.5) 3(-7.6,5) 4(-7.6,4.5) 5(-7.6,4) 6(-7.6,3.5) 7(-7.6,3) 8(-7.6,2.5) 9(-7.6,2) 10(-7.6,1.5) 11(-7.6,1) 12(-7.6,0.5) 13(-7.6,0) 14(-7.6,-0.5) 15(-7.6,-1) 16(-7.6,-1.5) 17(-7.6,-2) 18(-7.6,-2.5) 19(-7.6,-3) 20(-7.6,-3.5) 21(-7.6,-4) 22(-7.6,-4.5) 23(-7.6,-5) 24(-7.6,-5.5) 25(-7.6,-6) 51(7.6,-6) 52(7.6,-5.5) 53(7.6,-5) 54(7.6,-4.5) 55(7.6,-4) 56(7.6,-3.5) 57(7.6,-3) 58(7.6,-2.5) 59(7.6,-2) 60(7.6,-1.5) 61(7.6,-1) 62(7.6,-0.5) 63(7.6,0) 64(7.6,0.5) 65(7.6,1) 66(7.6,1.5) 67(7.6,2) 68(7.6,2.5) 69(7.6,3) 70(7.6,3.5) 71(7.6,4) 72(7.6,4.5) 73(7.6,5) 74(7.6,5.5) 75(7.6,6)
  oval 0.3x1.8 smd mask+0.05: 26(-6,-7.6) 27(-5.5,-7.6) 28(-5,-7.6) 29(-4.5,-7.6) 30(-4,-7.6) 31(-3.5,-7.6) 32(-3,-7.6) 33(-2.5,-7.6) 34(-2,-7.6) 35(-1.5,-7.6) 36(-1,-7.6) 37(-0.5,-7.6) 38(0,-7.6) 39(0.5,-7.6) 40(1,-7.6) 41(1.5,-7.6) 42(2,-7.6) 43(2.5,-7.6) 44(3,-7.6) 45(3.5,-7.6) 46(4,-7.6) 47(4.5,-7.6) 48(5,-7.6) 49(5.5,-7.6) 50(6,-7.6) 76(6,7.6) 77(5.5,7.6) 78(5,7.6) 79(4.5,7.6) 80(4,7.6) 81(3.5,7.6) 82(3,7.6) 83(2.5,7.6) 84(2,7.6) 85(1.5,7.6) 86(1,7.6) 87(0.5,7.6) 88(0,7.6) 89(-0.5,7.6) 90(-1,7.6) 91(-1.5,7.6) 92(-2,7.6) 93(-2.5,7.6) 94(-3,7.6) 95(-3.5,7.6) 96(-4,7.6) 97(-4.5,7.6) 98(-5,7.6) 99(-5.5,7.6) 100(-6,7.6)
  rect 6x6 smd paste-10 mask+0.1: 101(0,0)
TopLayer:
  region: -5.5,5.5 5.5,5.5 5.5,-5.5 -5.5,-5.5
TopOverlay:
  circle w0.2: c-6.1,5.949 r0.2
  circle w0.2: c-7.8,6.649 r0.2
  lines w0.2: -7.1,-6.4 -7.1,-7.1 -6.4,-7.1 ; -7.1,6.4 -7.1,7.1 -6.4,7.1 ; 6.4,-7.1 7.1,-7.1 7.1,-6.4 ; 6.4,7.1 7.1,7.1 7.1,6.4
TopPaste:
  region: 1.2,1.2 0.2,1.2 0.2,0.2 1.2,0.2
  region: 1.2,-0.2 0.2,-0.2 0.2,-1.2 1.2,-1.2
  rectangle: -1.2,0.2 -0.2,1.2
  rectangle: -1.2,-1.2 -0.2,-0.2
  rectangle: -2.6,0.2 -1.6,1.2
  rectangle: -2.6,-1.2 -1.6,-0.2
  region: 2.6,1.2 1.6,1.2 1.6,0.2 2.6,0.2
  region: 2.6,-0.2 1.6,-0.2 1.6,-1.2 2.6,-1.2
  region: 1.2,2.6 0.2,2.6 0.2,1.6 1.2,1.6
  rectangle: -1.2,1.6 -0.2,2.6
  rectangle: -2.6,1.6 -1.6,2.6
  region: 2.6,2.6 1.6,2.6 1.6,1.6 2.6,1.6
  region: 1.2,-1.6 0.2,-1.6 0.2,-2.6 1.2,-2.6
  rectangle: -1.2,-2.6 -0.2,-1.6
  rectangle: -2.6,-2.6 -1.6,-1.6
  region: 2.6,-1.6 1.6,-1.6 1.6,-2.6 2.6,-2.6
Mechanical13:
  circle w0.1: c-6.05,6.05 r0.5
  lines w0.1: -7,-7 -7,7 7,7 7,-7 -7,-7
3D body "User Library-IPC QFP-ful100l.step": height 1.15, standoff 0, extent -8.014,-8.014 8.014,8.014